# EAGLE library part 61301811121 (library Header_R_ESP32)
CONN HEADER VERT 18POS 2.54MM Manufacturer's datasheet <https://katalog.we-online.de/em/datasheet/6130xx11121.pdf>
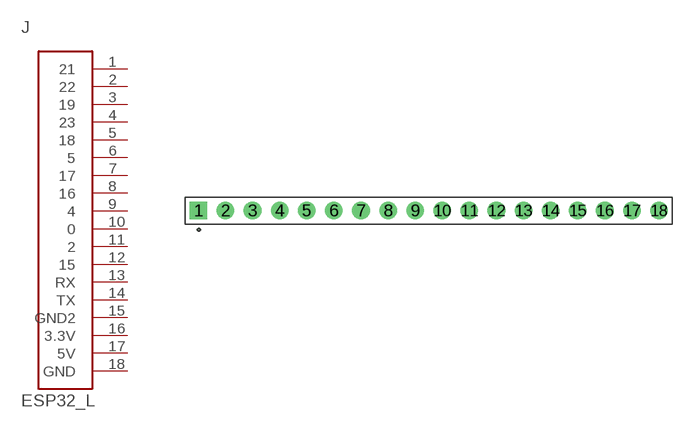
[diagram p23: symbol with the pads of 61301811121; footprint 61301811121]

Designator prefix J

## 61301811121 (CREATED_BY: PCBLayout.com; DIGIKEY_PART_NUMBER: 732-5328-ND; MANUFACTURER: Wurth Electronics Inc.; MPN: 61301811121)  [61301811121]
1  21  pas
2  22  pas
3  19  pas
4  23  pas
5  18  pas
6  5  pas
7  17  pas
8  16  pas
9  4  pas
10  0  pas
11  2  pas
12  15  pas
13  RX  pas
14  TX  pas
15  GND2  pas
16  3.3V  pas
17  5V  pas
18  GND  pas

## Footprint 61301811121 (pad centres in mm)
drill 1.1 square: 1 -21.59,0
drill 1.1: 2 -19.05,0; 3 -16.51,0; 4 -13.97,0; 5 -11.43,0; 6 -8.89,0; 7 -6.35,0; 8 -3.81,0; 9 -1.27,0; 10 1.27,0; 11 3.81,0; 12 6.35,0; 13 8.89,0; 14 11.43,0; 15 13.97,0; 16 16.51,0; 17 19.05,0; 18 21.59,0